# Altium integrated library z80uPC.IntLib: 26 symbols
Pins are listed as number, name and electrical type; pins without a type are passive.

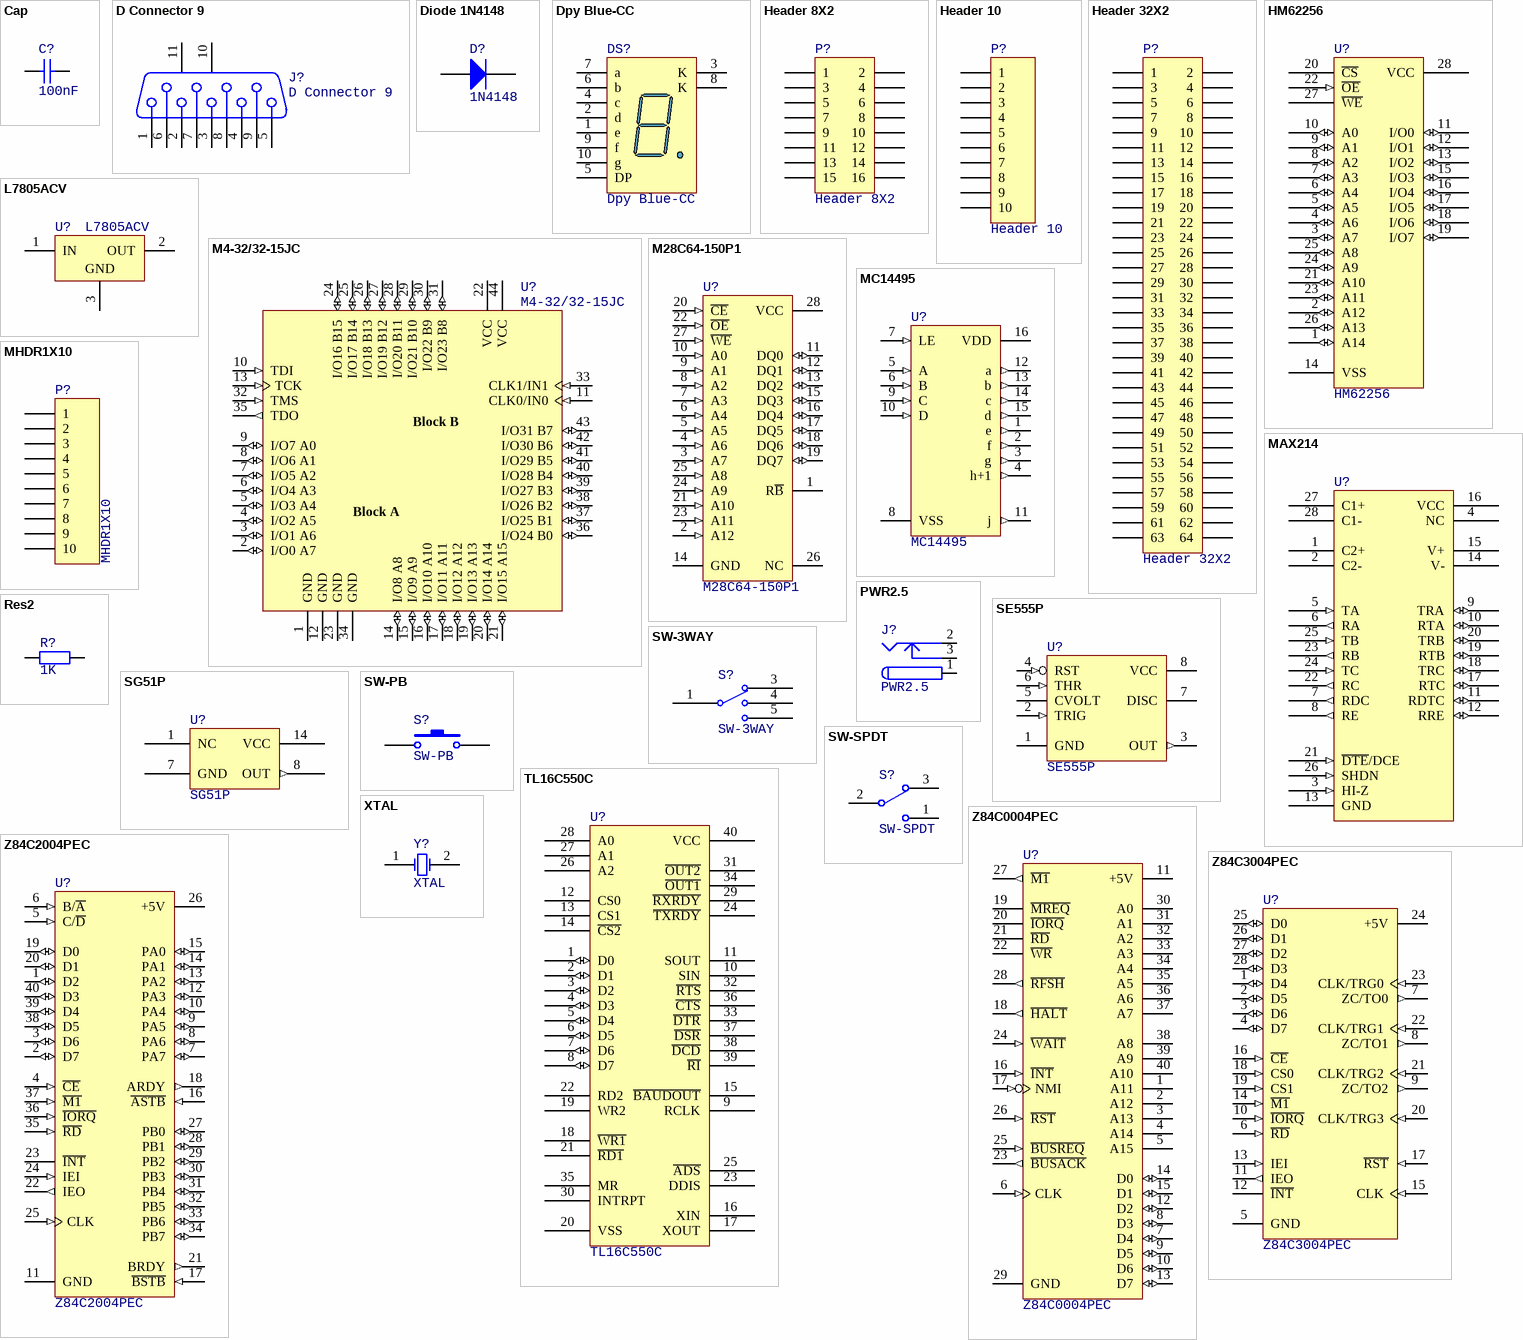
[diagram p0: symbols Cap to Z84C3004PEC]

## Cap
designator C?  value 100nF  (hidden comment: Cap)
Capacitor; Published: 8-Jun-2000; LatestRevisionDate: 17-Jul-2002; LatestRevisionNote: Re-released for DXP Platform.; PackageReference: RAD-0.3; Publisher: Altium Limited; PackageDescription: Radial Cap, Thru-Hole; 2 Leads; 0.3 in Pin Spacing
footprint RAD-0.1 (Radial Cap, Thru-Hole; 2 Leads; 0.1 in Pin Spacing)
simulation model CAP (Capacitor)
signal-integrity model Cap
pins: 1, 2

## D Connector 9
designator J?
Receptacle Assembly, 9 Position, Right Angle; PackageDocument: O; Positions: 9; Published: 15-Jun-2001; LatestRevisionDate: 17-Jul-2002; LatestRevisionNote: Re-released for DXP Platform.; DatasheetDocument: 1-Sep-1999; PackageReference: 788750; Publisher: Altium Limited; Orientation: Right Angle; Gender: Receptacle
footprint DSUB1.385-2H9 (Connector; D Subminiature; 9 Position; Right Angle; Pitch 1.385 mm)
signal-integrity model Connector
pins: 1, 2, 3, 4, 5, 6, 7, 8, 9, 10 MH1, 11 MH2

## Diode 1N4148
designator D?, comment 1N4148
High Conductance Fast Diode; Published: 8-Jun-2000; LatestRevisionDate: 17-Jul-2002; LatestRevisionNote: Re-released for DXP Platform.; DatasheetVersion: 1997; PackageReference: DO-35; Publisher: Altium Limited; PackageDescription: Diode, Axial; Body 3.8 x 1.9 mm (LxDia. max), Lead Dia. 0.53 mm (max); Code_JEDEC: DO-204-AH; ComponentLink1Description: Manufacturer Link; ComponentLink1URL: http://www.fairchildsemi.com/; ComponentLink2Description: Datasheet; ComponentLink2URL: http://www.fairchildsemi.com/ds/1N%2F1N4148.pdf
footprint DO-35 (Diode, Axial; Body 3.8 x 1.9 mm (LxDia. max), Lead Dia. 0.53 mm (max))
simulation model 1N4148 (DIODE)
signal-integrity model 1N4148
pins: 1 A, 2 K

## Dpy Blue-CC
designator DS?
14.2 mm General Purpose Blue 7-Segment Display: CC, RH DP, Gray Surface; MinimumIntensity: 2020 ucd; Note: IF = 10 mA; Published: 8-Jun-2000; LatestRevisionDate: 17-Dec-2003; LatestRevisionNote: Schematic revised, PCB Footprint replaced.; DatasheetVersion: 24-Sep-2002; PackageVersion: 24-Sep-2002; PackageReference: H; Publisher: Altium Limited; PackageDescription: LED, 7-Segment Display, 14.2 mm, RHD; 10 Leads; Row Space 15.24 mm; Pitch 2.54 mm; Colour: Blue; ComponentLink1Description: Manufacturer Link; ComponentLink1URL: http://www.agilent.com/
footprint H (LED, 7-Segment Display, 14.2 mm, RHD; 10 Leads; Row Space 15.24 mm; Pitch 2.54 mm)
simulation model HDSP_503B (SUBCKT)
pins: 1 e "Anode", 2 d "Anode", 3 K "Common Cathode", 4 c "Anode", 5 DP "Anode", 6 b "Anode", 7 a "Anode", 8 K "Common Cathode", 9 f "Anode", 10 g "Anode"

## Header 8X2
designator P?
Header, 8-Pin, Dual row; LatestRevisionDate: 17-Jul-2002; LatestRevisionNote: Re-released for DXP Platform.; Publisher: Altium Limited
footprint HDR2X8 (Connector; Header; 8x2 Position)
signal-integrity model Connector
pins: 1, 2, 3, 4, 5, 6, 7, 8, 9, 10, 11, 12, 13, 14, 15, 16

## Header 10
designator P?
Header, 10-Pin; LatestRevisionDate: 17-Jul-2002; LatestRevisionNote: Re-released for DXP Platform.; Publisher: Altium Limited
footprint HDR2X5 (Connector; Header; 5x2 Position)
signal-integrity model Connector
footprint HDR2X5 (Connector; Header; 5x2 Position)
pins: 1, 2, 3, 4, 5, 6, 7, 8, 9, 10

## Header 32X2
designator P?
Header, 32-Pin, Dual row; LatestRevisionDate: 17-Jul-2002; LatestRevisionNote: Re-released for DXP Platform.; Publisher: Altium Limited
footprint 0973264X804 (Connector; DIN 41612, Type R, Thru-Hole; Rows a+c, 64 Position; Right Angle); pin to pad 1>C1 2>A1 3>C2 4>A2 5>C3 6>A3 7>C4 8>A4 9>C5 10>A5 11>C6 12>A6 13>C7 14>A7 15>C8 16>A8 17>C9 18>A9 19>C10 20>A10 21>C11 22>A11 23>C12 24>A12 25>C13 26>A13 27>C14 28>A14 29>C15 30>A15 31>C16 32>A16 33>C17 34>A17 35>C18 36>A18 37>C19 38>A19 39>C20 40>A20 41>C21 42>A21 43>C22 44>A22 45>C23 46>A23 47>C24 48>A24 49>C25 50>A25 51>C26 52>A26 53>C27 54>A27 55>C28 56>A28 57>C29 58>A29 59>C30 60>A30 61>C31 62>A31 63>C32 64>A32
signal-integrity model Connector
pins: 1, 2, 3, 4, 5, 6, 7, 8, 9, 10, 11, 12, 13, 14, 15, 16, 17, 18, 19, 20, 21, 22, 23, 24, 25, 26, 27, 28, 29, 30, 31, 32, 33, 34, 35, 36, 37, 38, 39, 40, 41, 42, 43, 44, 45, 46, 47, 48, 49, 50, 51, 52, 53, 54, 55, 56, 57, 58, 59, 60, 61, 62, 63, 64

## HM62256
designator U?
8K x 8 Static RAM
footprint PDIP28 (DIP; 28 Leads; Row Spacing 15.24 mm; Pitch 2.54 mm)
pins: 1 A14 (io), 2 A12 (io), 3 A7 (io), 4 A6 (io), 5 A5 (io), 6 A4 (io), 7 A3 (io), 8 A2 (io), 9 A1 (io), 10 A0 (io), 11 I/O0 (io), 12 I/O1 (io), 13 I/O2 (io), 14 VSS (power), 15 I/O3 (io), 16 I/O4 (io), 17 I/O5 (io), 18 I/O6 (io), 19 I/O7 (io), 20 ~{CS}, 21 A10 (io), 22 ~{OE} (in), 23 A11 (io), 24 A9 (io), 25 A8 (io), 26 A13 (io), 27 ~{WE}, 28 VCC (power)

## L7805ACV
designator U?
Precision 1A Regulator; Note: Tab is connected to pin 3 (GND).; Published: 24-Aug-2001; LatestRevisionDate: 17-Jul-2002; LatestRevisionNote: Re-released for DXP Platform.; DatasheetVersion: Nov-1999; PackageVersion: Jun-1998; PackageReference: TO220ABN; Publisher: Altium Limited; PackageDescription: TO, Thru-Hole, Vertical, Heatsink Mounted; 3 In-Line Leads; Pitch 2.54 mm; Pin sequence 1, 3, 2; ComponentLink1Description: Manufacturer Link; ComponentLink1URL: http://www.st.com/; ComponentLink2Description: Datasheet; ComponentLink2URL: http://www.st.com/stonline/products/literature/ds/2144/l7805ab.pdf
footprint TO220ABN (TO, Thru-Hole, Vertical, Heatsink Mounted; 3 In-Line Leads; Pitch 2.54 mm; Pin sequence 1, 3, 2)
pins: 1 IN (power), 2 OUT (power), 3 GND (power)

## M4-32/32-15JC
designator U?
High-Performance EE CMOS In-System Programmable Logic; Published: 23-Sep-2002; LatestRevisionDate: 13-Apr-2006; LatestRevisionNote: IPC-7351 Footprint Added.; DatasheetVersion: Mar-2000; PackageVersion: pkg_32, Aug-2005; PackageReference: PLCC44; Publisher: Altium Limited; PackageDescription: 44-Pin Leaded Chip Carrier 1.27 mm Pitch; Code_IPC: PLCC-44; ComponentLink1Description: Manufacturer Link; ComponentLink1URL: http://www.latticesemi.com/products/mature/index.cfm; ComponentLink2Description: Datasheet; ComponentLink2URL: http://www.latticesemi.com/lit/docs/datasheets/cpld/mach4.pdf
footprint PLCC44_SOCKET (Socket for PLCC44)
footprint PLCC44_L (Leaded Chip Carrier, 44-Leads, Body 16.6x16.6mm, Pitch 1.27mm, IPC High Density)
footprint PLCC44_M (Leaded Chip Carrier, 44-Leads, Body 16.6x16.6mm, Pitch 1.27mm, IPC Low Density)
3D model M4-PLCC44 (44-Pin Leaded Chip Carrier 1.27 mm Pitch)
pins: 1 GND (power), 2 I/O0 A7 (io), 3 I/O1 A6 (io), 4 I/O2 A5 (io), 5 I/O3 A4 (io), 6 I/O4 A3 (io), 7 I/O5 A2 (io), 8 I/O6 A1 (io), 9 I/O7 A0 (io), 10 TDI (in), 11 CLK0/IN0 (in), 12 GND (power), 13 TCK (in), 14 I/O8 A8 (io), 15 I/O9 A9 (io), 16 I/O10 A10 (io), 17 I/O11 A11 (io), 18 I/O12 A12 (io), 19 I/O13 A13 (io), 20 I/O14 A14 (io), 21 I/O15 A15 (io), 22 VCC (power), 23 GND (power), 24 I/O16 B15 (io), 25 I/O17 B14 (io), 26 I/O18 B13 (io), 27 I/O19 B12 (io), 28 I/O20 B11 (io), 29 I/O21 B10 (io), 30 I/O22 B9 (io), 31 I/O23 B8 (io), 32 TMS (in), 33 CLK1/IN1 (in), 34 GND (power), 35 TDO (out), 36 I/O24 B0 (io), 37 I/O25 B1 (io), 38 I/O26 B2 (io), 39 I/O27 B3 (io), 40 I/O28 B4 (io), 41 I/O29 B5 (io), 42 I/O30 B6 (io), 43 I/O31 B7 (io), 44 VCC (power)
text: Block B; Block A

## M28C64-150P1
designator U?
Parallel 64 Kbit (8K x 8) EEPROM with Software Data Protection; Published: 24-Aug-2001; LatestRevisionDate: 06-Jun-2005; LatestRevisionNote: Stylized 3D Model Added.; DatasheetVersion: Jun-1996; PackageVersion: Jan-2003; PackageReference: PDIP28; Publisher: Altium Limited; PackageDescription: DIP; 28 Leads; Row Spacing 15.24 mm; Pitch 2.54 mm; ComponentLink1Description: Manufacturer Link; ComponentLink1URL: http://www.st.com/
footprint PDIP28 (DIP; 28 Leads; Row Spacing 15.24 mm; Pitch 2.54 mm)
3D model PDIP28 (DIP; 28 Leads; Row Spacing 15.24 mm; Pitch 2.54 mm)
pins: 1 R~{B}, 2 A12 (in), 3 A7 (in), 4 A6 (in), 5 A5 (in), 6 A4 (in), 7 A3 (in), 8 A2 (in), 9 A1 (in), 10 A0 (in), 11 DQ0 (io), 12 DQ1 (io), 13 DQ2 (io), 14 GND (power), 15 DQ3 (io), 16 DQ4 (io), 17 DQ5 (io), 18 DQ6 (io), 19 DQ7 (io), 20 ~{CE} (in), 21 A10 (in), 22 ~{OE} (in), 23 A11 (in), 24 A9 (in), 25 A8 (in), 26 NC, 27 ~{WE} (in), 28 VCC (power)

## MAX214
designator U?  (value not drawn)
footprint DIP28W (DIP, 28-Leads, Row Spacing 15.24mm, Pitch 2.54mm, Body 37.02x13.72mm)
pins: 1 C2+, 2 C2-, 3 HI-Z (in), 4 NC, 5 TA (in), 6 RA (out), 7 RDC (out), 8 RE (out), 9 TRA (io), 10 RTA (io), 11 RDTC (io), 12 RRE (io), 13 GND, 14 V-, 15 V+, 16 VCC, 17 RTC (io), 18 TRC (io), 19 RTB (io), 20 TRB (io), 21 ~{DTE}/DCE (in), 22 RC (out), 23 RB (out), 24 TC (in), 25 TB (in), 26 SHDN (in), 27 C1+, 28 C1-

## MC14495
designator U?
Hexadecimal to seven segment Latch / Decoder LED Driver
footprint DIP16 (DIP; 16 Leads; Row Spacing 7.62 mm; Pitch 2.54 mm)
pins: 1 e (out), 2 f (out), 3 g (out), 4 h+1 (out), 5 A (in), 6 B (in), 7 LE (in), 8 VSS, 9 C (in), 10 D (in), 11 j (out), 12 a (out), 13 b (out), 14 c (out), 15 d (out), 16 VDD

## MHDR1X10
designator P?
Header, 10-Pin; LatestRevisionDate: 17-Jul-2002; LatestRevisionNote: Re-released for DXP Platform.; Publisher: Altium Limited
footprint MHDR1X10 (Connector; Header; 10 Position)
signal-integrity model Connector
footprint MHDR2X5 (Connector; Header; 5x2 Position)
pins: 1, 2, 3, 4, 5, 6, 7, 8, 9, 10

## PWR2.5
designator J?
Low Voltage Power Supply Connector; Published: 17-Dec-2003; DatasheetDocument: 09-May-2002; Publisher: Altium Limited; ComponentLink1Description: Manufacturer Link; ComponentLink1URL: http://domino.kycon.com/internet/Products.html
footprint KLD-0202 (DC Power Jack, 2.5mm, KLD Series, PCB Mount)
signal-integrity model Connector
pins: 1 (power), 1A (power), 1B (power), 2 (power), 2A (power), 2B (power), 3 (power), 3A (power), 3B (power)

## Res2
designator R?  value 1K  (hidden comment: Res2)
Resistor; Published: 8-Jun-2000; LatestRevisionDate: 17-Jul-2002; LatestRevisionNote: Re-released for DXP Platform.; PackageReference: AXIAL-0.4; Publisher: Altium Limited; PackageDescription: Axial Device, Thru-Hole; 2 Leads; 0.4 in Pin Spacing
footprint AXIAL-0.4 (Axial Device, Thru-Hole; 2 Leads; 0.4 in Pin Spacing)
simulation model RESISTOR (Resistor)
signal-integrity model Res
pins: 1, 2

## SE555P
designator U?
Precision Timer; Published: 16-Jan-2001; LatestRevisionDate: 04-Mar-2005; LatestRevisionNote: Stylized 3D Model Added.; DatasheetVersion: Feb-1992; PackageVersion: Jun-1999; PackageReference: P008; Publisher: Altium Limited; PackageDescription: DIP; 8 Leads; Row Spacing 7.62 mm; Pitch 2.54 mm; Code_JEDEC: MO-001-AN; ComponentLink1Description: Manufacturer Link; ComponentLink1URL: http://www.ti.com/; ComponentLink2Description: Datasheet; ComponentLink2URL: http://www-s.ti.com/sc/ds/se555.pdf
footprint P008 (DIP; 8 Leads; Row Spacing 7.62 mm; Pitch 2.54 mm)
3D model P008 (DIP; 8 Leads; Row Spacing 7.62 mm; Pitch 2.54 mm)
pins: 1 GND (power), 2 TRIG (in), 3 OUT (out), 4 RST (in), 5 CVOLT, 6 THR (in), 7 DISC (oc), 8 VCC (power)

## SG51P
designator U?
4.000000  MHz High Frequency Oscillator
footprint DIP14 (DIP; 14 Leads; Row Spacing 7.62 mm; Pitch 2.54 mm)
pins: 1 NC, 7 GND (power), 8 OUT (out), 14 VCC (power)

## SW-3WAY
designator S?
SGA-13P-03V-7295
footprint SW_3WAY
pins: 1, 3, 4, 5

## SW-PB
designator S?
Switch; Published: 24-Mar-1999; LatestRevisionDate: 17-Jul-2002; LatestRevisionNote: Re-released for DXP Platform.; PackageReference: SPST-2; Publisher: Altium Limited; PackageDescription: Switch; 2 Leads
footprint SPST-2 (Switch; 2 Leads)
footprint DPST-4
pins: 1, 2

## SW-SPDT
designator S?
SPDT Subminiature Toggle Switch, Right Angle Mounting, Vertical Actuation; Published: 24-Mar-1999; LatestRevisionDate: 17-Dec-2003; LatestRevisionNote: Schematic revised, PCB Footprint replaced.; DatasheetVersion: 05-Dec-2000; PackageReference: TL36WW15050; Publisher: Altium Limited; PackageDescription: Switch; 4 Leads; ComponentLink1Description: Manufacturer Link; ComponentLink1URL: http://www.apem.com
footprint SW_2WAY
pins: 1, 2, 3

## TL16C550C
designator U?
footprint PLCC44_SOCKET (Socket for PLCC44)
pins: 1 D0 (io), 2 D1 (io), 3 D2 (io), 4 D3 (io), 5 D4 (io), 6 D5 (io), 7 D6 (io), 8 D7 (io), 9 RCLK, 10 SIN, 11 SOUT, 12 CS0, 13 CS1, 14 ~{CS2}, 15 ~{BAUDOUT}, 16 XIN, 17 XOUT, 18 ~{WR1}, 19 WR2, 20 VSS (power), 21 ~{RD1}, 22 RD2, 23 DDIS, 24 ~{TXRDY}, 25 ~{ADS}, 26 A2, 27 A1, 28 A0, 29 ~{RXRDY}, 30 INTRPT, 31 ~{OUT2}, 32 ~{RTS}, 33 ~{DTR}, 34 ~{OUT1}, 35 MR, 36 ~{CTS}, 37 ~{DSR}, 38 ~{DCD}, 39 ~{RI}, 40 VCC

## XTAL
designator Y?
Crystal Oscillator; Published: 8-Jun-2000; LatestRevisionDate: 17-Jul-2002; LatestRevisionNote: Re-released for DXP Platform.; PackageReference: R38; Publisher: Altium Limited; PackageDescription: Crystal, Thru-Hole; 2 Leads; Body 3.1 x 8.2 mm (Dia.xH)
footprint RAD-0.2 (Radial Cap, Thru-Hole; 2 Leads; 0.2 in Pin Spacing)
simulation model XTAL (Spice Subcircuit)
pins: 1 OSC1, 2 OSC2

## Z84C0004PEC
designator U?
CMOS 8-Bit Microprocessor; Published: 15-Apr-2002; LatestRevisionDate: 04-Mar-2005; LatestRevisionNote: Stylized 3D Model Added.; DatasheetVersion: Jan-1989; PackageVersion: Jun-1999; PackageReference: PDIP40; Publisher: Altium Limited; PackageDescription: DIP; 40 Leads; Row Spacing 15.24 mm; Pitch 2.54 mm; ComponentLink1Description: Manufacturer Link; ComponentLink1URL: http://www.zilog.com/
footprint PDIP40 (DIP; 40 Leads; Row Spacing 15.24 mm; Pitch 2.54 mm)
3D model PDIP40 (DIP; 40 Leads; Row Spacing 15.24 mm; Pitch 2.54 mm)
pins: 1 A11 (hiz), 2 A12 (hiz), 3 A13 (hiz), 4 A14 (hiz), 5 A15 (hiz), 6 CLK (in), 7 D4 (io), 8 D3 (io), 9 D5 (io), 10 D6 (io), 11 +5V (power), 12 D2 (io), 13 D7 (io), 14 D0 (io), 15 D1 (io), 16 ~{INT} (in), 17 NMI (in), 18 ~{HALT} (out), 19 ~{MREQ} (hiz), 20 ~{IORQ} (hiz), 21 ~{RD} (hiz), 22 ~{WR} (hiz), 23 ~{BUSACK} (out), 24 ~{WAIT} (in), 25 ~{BUSREQ} (in), 26 ~{RST} (in), 27 ~{M1} (out), 28 ~{RFSH} (out), 29 GND (power), 30 A0 (hiz), 31 A1 (hiz), 32 A2 (hiz), 33 A3 (hiz), 34 A4 (hiz), 35 A5 (hiz), 36 A6 (hiz), 37 A7 (hiz), 38 A8 (hiz), 39 A9 (hiz), 40 A10 (hiz)

## Z84C2004PEC
designator U?
CMOS Parallel I/O Controller; Published: 15-Apr-2002; LatestRevisionDate: 04-Mar-2005; LatestRevisionNote: Stylized 3D Model Added.; DatasheetVersion: 2001; PackageVersion: Jun-1999; PackageReference: PDIP40; Publisher: Altium Limited; PackageDescription: DIP; 40 Leads; Row Spacing 15.24 mm; Pitch 2.54 mm; ComponentLink1Description: Manufacturer Link; ComponentLink1URL: http://www.zilog.com/; ComponentLink2Description: Datasheet; ComponentLink2URL: http://www.zilog.com/docs/z80/um0081.pdf
footprint PDIP40 (DIP; 40 Leads; Row Spacing 15.24 mm; Pitch 2.54 mm)
3D model PDIP40 (DIP; 40 Leads; Row Spacing 15.24 mm; Pitch 2.54 mm)
pins: 1 D2 (io), 2 D7 (io), 3 D6 (io), 4 ~{CE} (in), 5 C/~{D} (in), 6 B/~{A} (in), 7 PA7 (io), 8 PA6 (io), 9 PA5 (io), 10 PA4 (io), 11 GND (power), 12 PA3 (io), 13 PA2 (io), 14 PA1 (io), 15 PA0 (io), 16 ~{ASTB} (in), 17 ~{BSTB} (in), 18 ARDY (out), 19 D0 (io), 20 D1 (io), 21 BRDY (out), 22 IEO (out), 23 ~{INT} (oc), 24 IEI (in), 25 CLK (in), 26 +5V (power), 27 PB0 (io), 28 PB1 (io), 29 PB2 (io), 30 PB3 (io), 31 PB4 (io), 32 PB5 (io), 33 PB6 (io), 34 PB7 (io), 35 ~{RD} (in), 36 ~{IORQ} (in), 37 ~{M1} (in), 38 D5 (io), 39 D4 (io), 40 D3 (io)

## Z84C3004PEC
designator U?
CMOS Four-Channel Counter/Timer Circuit; Note: Pin(s) 28 "No Connection" and not drawn.; Published: 15-Apr-2002; LatestRevisionDate: 04-Mar-2005; LatestRevisionNote: Stylized 3D Model Added.; DatasheetVersion: 2001; PackageVersion: 2001; PackageReference: PDIP28; Publisher: Altium Limited; PackageDescription: DIP; 28 Leads; Row Spacing 15.24 mm; Pitch 2.54 mm; ComponentLink1Description: Manufacturer Link; ComponentLink1URL: http://www.zilog.com/; ComponentLink2Description: Datasheet; ComponentLink2URL: http://www.zilog.com/docs/z80/um0081.pdf
footprint PDIP28 (DIP; 28 Leads; Row Spacing 15.24 mm; Pitch 2.54 mm)
3D model PDIP28 (DIP; 28 Leads; Row Spacing 15.24 mm; Pitch 2.54 mm)
pins: 1 D4 (io), 2 D5 (io), 3 D6 (io), 4 D7 (io), 5 GND (power), 6 ~{RD} (in), 7 ZC/TO0 (out), 8 ZC/TO1 (out), 9 ZC/TO2 (out), 10 ~{IORQ} (in), 11 IEO (out), 12 ~{INT} (oc), 13 IEI (in), 14 ~{M1} (in), 15 CLK (in), 16 ~{CE} (in), 17 ~{RST} (in), 18 CS0 (in), 19 CS1 (in), 20 CLK/TRG3 (in), 21 CLK/TRG2 (in), 22 CLK/TRG1 (in), 23 CLK/TRG0 (in), 24 +5V (power), 25 D0 (io), 26 D1 (io), 27 D2 (io), 28 D3 (io)